# EAGLE library part STM8L101F3U6 (library stm8)
STM8 series Microcontroller IC 8-Bit 16MHz 8KB (8K x 8) FLASH 20-UFQFPN (3x3)
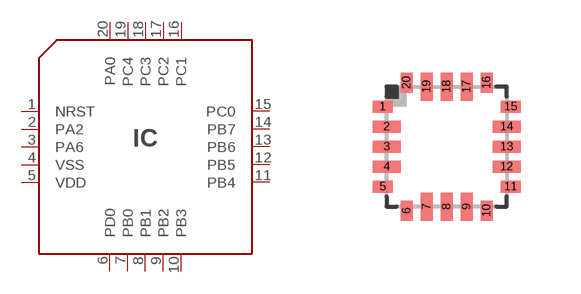
[diagram p0: symbol with the pads of UFQFPN20; footprint UFQFPN20]

Designator prefix IC

## STM8L101F3U6 (DIGIKEY#: 497-18840-1-ND; LCSC#: C111168; MANF: STMicroelectronics; MANF#: STM8L101F3U6TR)  [UFQFPN20]
1  NRST
2  PA2
3  PA6
4  VSS
5  VDD
6  PD0
7  PB0
8  PB1
9  PB2
10  PB3
11  PB4
12  PB5
13  PB6
14  PB7
15  PC0
16  PC1
17  PC2
18  PC3
19  PC4
20  PA0

## Footprint UFQFPN20 (pad centres in mm)
smd 0.5 x 0.3: 1 -1.6,1; 5 -1.6,-1; 11 1.6,-1; 15 1.6,1
smd 0.7 x 0.3: 2 -1.5,0.5; 3 -1.5,0; 4 -1.5,-0.5; 12 1.5,-0.5; 13 1.5,0; 14 1.5,0.5
smd 0.3 x 0.5: 6 -1,-1.6; 10 1,-1.6; 16 1,1.6; 20 -1,1.6
smd 0.3 x 0.7: 7 -0.5,-1.5; 8 0,-1.5; 9 0.5,-1.5; 17 0.5,1.5; 18 0,1.5; 19 -0.5,1.5